# EAGLE library part PIR_SENSOR (library pimoroni-optoelectronics)
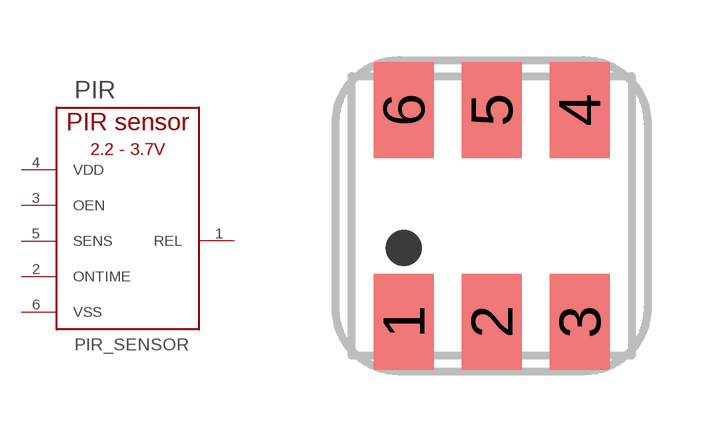
[diagram p9: symbol with the pads of PIR_SENSOR; footprint PIR_SENSOR]

Designator prefix PIR

## PIR_SENSOR  [PIR_SENSOR]
1  REL
2  ONTIME
3  OEN
4  VDD
5  SENS
6  VSS

## Footprint PIR_SENSOR (pad centres in mm)
smd 1.5 x 2.4: 1 -2.2,-2.65; 2 0,-2.65; 3 2.2,-2.65; 4 2.2,2.65; 5 0,2.65; 6 -2.2,2.65